# Altium schematic symbol library UART.SchLib: 13 symbols
Pins are listed as number, name and electrical type; pins without a type are passive.

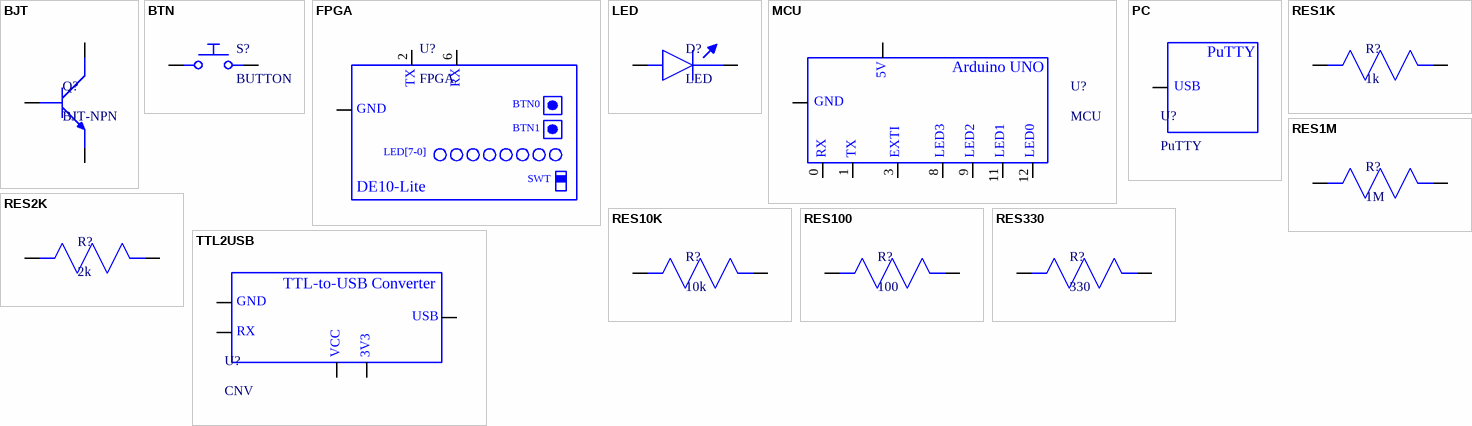
[diagram p0: symbols BJT to TTL2USB]

## BJT
designator Q?, comment BJT-NPN
pins: 1, 2, 3

## BTN
designator S?, comment BUTTON
pins: 12, 13

## FPGA
designator U?
pins: 2, 3, 6
text: TX; RX; BTN0; GND; BTN1; LED[7-0]; SWT; DE10-Lite

## LED
designator D?
pins: 1, 2

## MCU
designator U?
pins: 0, 1 15, 3, 8, 9, 11, 12, 16, 21
text: 5V; Arduino UNO; GND; RX; TX; EXTI; LED3; LED2; LED1; LED0

## PC
designator U?, comment PuTTY
pins: 0
text: USB

## RES1K
designator R?, comment 1k
pins: 1, 2

## RES1M
designator R?, comment 1M
pins: 1, 2

## RES2K
designator R?, comment 2k
pins: 1, 2

## RES10K
designator R?, comment 10k
pins: 1, 2

## RES100
designator R?, comment 100
pins: 1, 2

## RES330
designator R?, comment 330
pins: 1, 2

## TTL2USB
designator U?, comment CNV
pins: 0, 1 15, 11, 12, 16
text: TTL-to-USB Converter; GND; USB; RX; VCC; 3V3